# EAGLE library part ANALOG_LDO_ADM7172 (library DubSat1 Components)
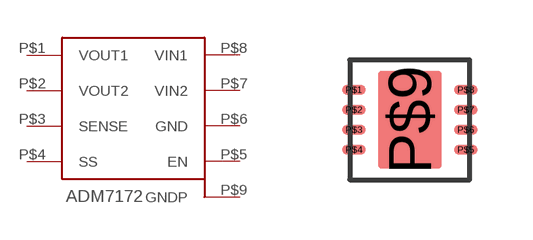
[diagram p10: symbol with the pads of 8-LFCSP; footprint 8-LFCSP]

Designator prefix -

## ANALOG_LDO_ADM7172  [8-LFCSP]
P$1  VOUT1
P$2  VOUT2
P$3  SENSE
P$4  SS
P$5  EN
P$6  GND
P$7  VIN2
P$8  VIN1
P$9  GNDP

## Footprint 8-LFCSP (pad centres in mm)
smd 0.6 x 0.24: P$1 -1.4,0.75; P$2 -1.4,0.25; P$3 -1.4,-0.25; P$4 -1.4,-0.75; P$5 1.4,-0.75; P$6 1.4,-0.25; P$7 1.4,0.25; P$8 1.4,0.75
smd 1.6 x 2.44: P$9 0,0